# Altium schematic symbol library HDMI micro 19pin.Schlib: 1 symbol
Pins are listed as number, name and electrical type; pins without a type are passive.

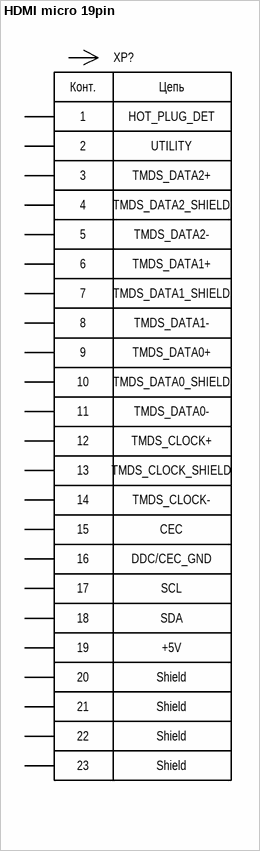
[diagram p0: symbol HDMI micro 19pin]

## HDMI micro 19pin
designator XP?
pins: 1 HOT_PLUG_DET, 2 UTILITY, 3 TMDS_DATA2+, 4 TMDS_DATA2_SHIELD, 5 TMDS_DATA2-, 6 TMDS_DATA1+, 7 TMDS_DATA1_SHIELD, 8 TMDS_DATA1-, 9 TMDS_DATA0+, 10 TMDS_DATA0_SHIELD, 11 TMDS_DATA0-, 12 TMDS_CLOCK+, 13 TMDS_CLOCK_SHIELD, 14 TMDS_CLOCK-, 15 CEC, 16 DDC/CEC_GND, 17 SCL, 18 SDA, 19 +5V, 20, 21, 22, 23
text: Конт.; Цепь; Shield